# Altium footprint library IC-MODULE.PcbLib: 11 footprints
Each footprint in its own frame and in the unit in brackets; x right, y up, seen from the top. Pads: shape width x height; smd on the part's side, far side on the other; paste and mask are expansions set on the pad; w line width, h text height; cw(c..) or ccw(c..) is an arc to the next point about the centre after c.
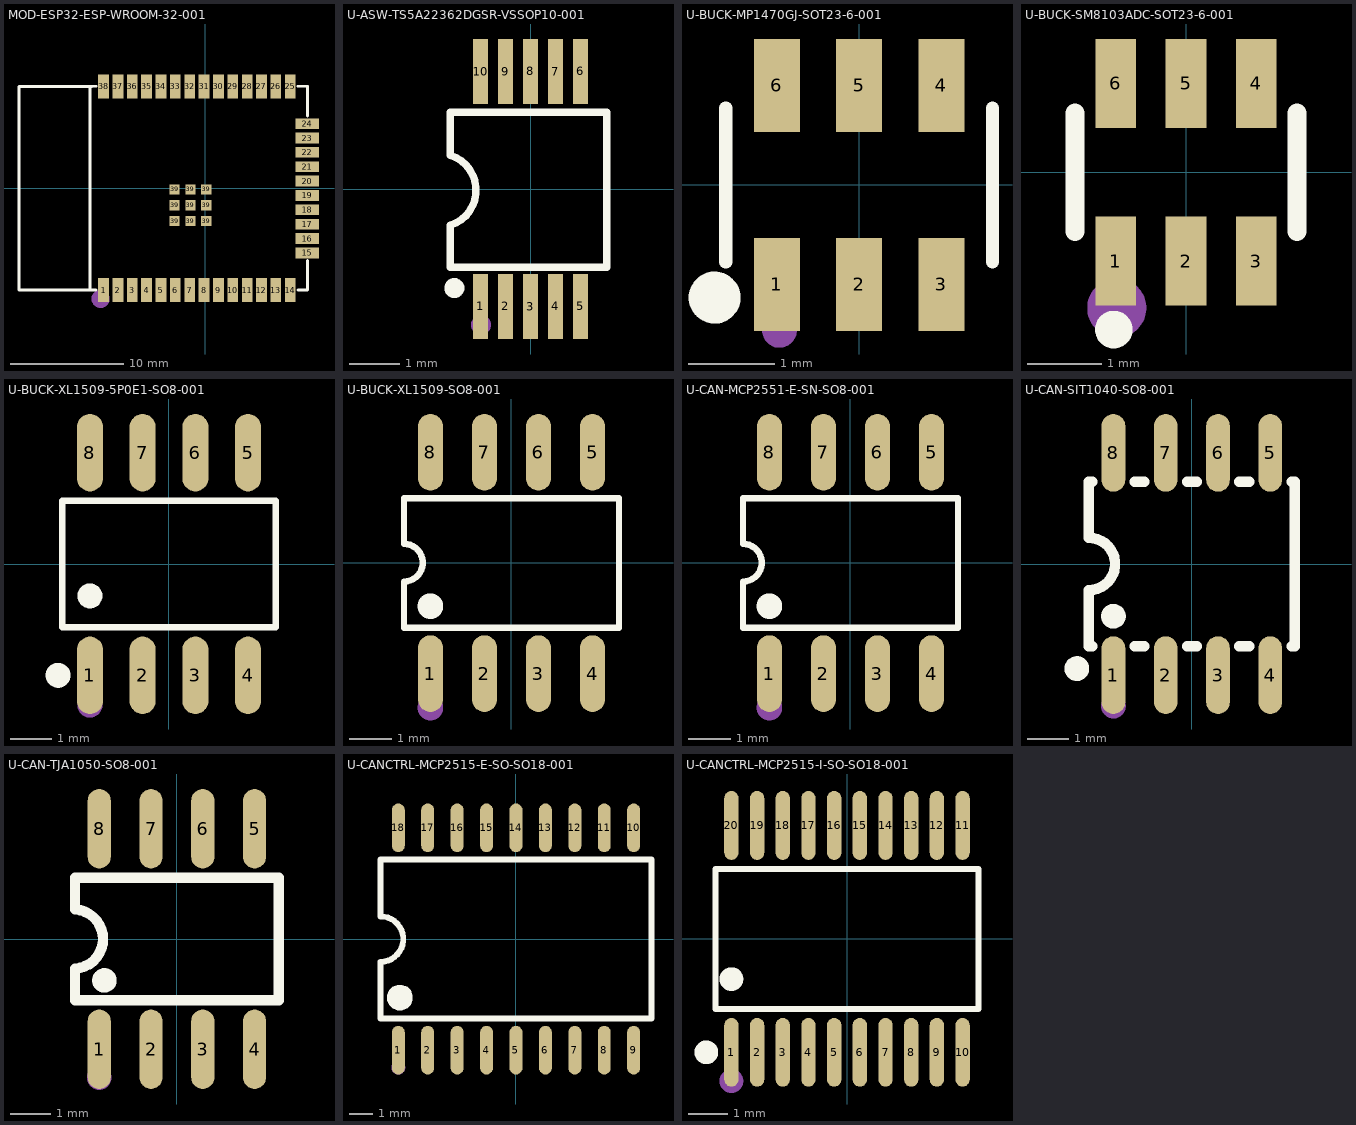
[diagram p0: the footprints below, top view; thin cyan lines are the x and y axes]

## MOD-ESP32-ESP-WROOM-32-001 [mm] "General-purpose Wi-Fi+BT+BLE MCU module"
pads (47):
  rect 0.95x2.1 smd paste+0 mask+0.051: 1(-9.002,-9) 2(-7.732,-9) 3(-6.462,-9) 4(-5.192,-9) 5(-3.922,-9) 6(-2.652,-9) 7(-1.382,-9) 8(-0.112,-9) 9(1.158,-9) 10(2.428,-9) 11(3.698,-9) 12(4.968,-9) 13(6.238,-9) 14(7.508,-9) 25(7.507,9) 26(6.237,9) 27(4.967,9) 28(3.697,9) 29(2.427,9) 30(1.157,9) 31(-0.113,9) 32(-1.383,9) 33(-2.653,9) 34(-3.923,9) 35(-5.193,9) 36(-6.463,9) 37(-7.733,9) 38(-9.003,9)
  rect 2.1x0.95 smd paste+0 mask+0.051: 15(9.003,-5.715) 16(9.003,-4.445) 17(9.003,-3.175) 18(9.003,-1.905) 19(9.003,-0.635) 20(9.003,0.635) 21(9.003,1.905) 22(9.003,3.175) 23(9.003,4.445) 24(9.003,5.715)
  rect 0.9x0.9 smd paste+0 mask+0.051: 39(-2.721,-2.9) 39(-2.721,-1.5) 39(-2.721,-0.1) 39(-1.321,-2.9) 39(-1.321,-0.1) 39(-1.321,-1.5) 39(0.079,-2.9) 39(0.079,-1.5) 39(0.079,-0.1)
Top Overlay:
  lines w0.254: -10.192,9 -10.192,-9 -9.684,-9 ; -10.192,9.017 -9.684,9.017 ; -10.026,-9 -16.476,-9 -16.476,9 -10.011,9 ; 8.189,-9 9.024,-9 9.024,-6.396 ; 8.189,9.017 9.024,9.017 9.024,6.396
Mechanical 15:
  circle w0.8: c-9.264,-9.779 r0.4
3D body "MOD-ESP32-ESP-WROOM-32-001.step": height 3.1, standoff 0, extent -16.56,-9 8.94,9

## U-ASW-TS5A22362DGSR-VSSOP10-001 [mm] "2-channel SPDT Analog Switches With Negative Signaling Capability"
pads (10):
  rect 0.3x1.3 smd paste+0 mask+0.051: 1(-1,-2.35) 2(-0.5,-2.35) 3(0,-2.35) 4(0.5,-2.35) 5(1,-2.35) 6(1,2.35) 7(0.5,2.35) 8(0,2.35) 9(-0.5,2.35) 10(-1,2.35)
Top Overlay:
  circle w0.2: c-1.524,-1.981 r0.1
  lines w0.15: -1.603,-1.562 -1.603,-0.724 ccw(c-1.82,-0.026) -1.603,0.673 ; -1.603,0.698 -1.603,1.537 ; -1.578,-1.562 1.522,-1.562 ; -1.578,1.537 1.522,1.537 1.522,-1.564
Mechanical 15:
  circle w0.2: c-0.99,-2.718 r0.1
3D body "U-ASW-TS5A22362DGSR-VSSOP10-001.step": height 1.23, standoff -0.02, extent -1.5,-2.506 1.5,2.506

## U-BUCK-MP1470GJ-SOT23-6-001 [mm] "18V 2A 600KHz Synchronous Step-Down Converter"
pads (6):
  rect 0.532x1.072 smd paste+0 mask+0.051: 1(-0.95,-1.149) 2(0,-1.149) 3(0.95,-1.149) 4(0.95,1.149) 5(0,1.149) 6(-0.95,1.149)
Top Overlay:
  circle w0.3: c-1.668,-1.301 r0.15
  lines w0.152: -1.539,-0.889 -1.539,0.889 ; 1.539,-0.889 1.539,0.889
Mechanical 15:
  circle w0.2: c-0.92,-1.68 r0.1
3D body "U-BUCK-MP1470GJ-SOT23-6-001.step": height 1.59, standoff -0.05, extent -1.439,-1.432 1.441,1.361

## U-BUCK-SM8103ADC-SOT23-6-001 [mm] "High Efficiency, 3.0A, 18V Input Synchronous Step Down Regulator"
pads (6):
  rect 0.55x1.2 smd paste+0 mask+0.051: 1(-0.95,-1.2) 2(0,-1.2) 3(0.95,-1.2) 4(0.95,1.2) 5(0,1.2) 6(-0.95,1.2)
Top Overlay:
  circle w0.254: c-0.975,-2.125 r0.127
  lines w0.254: -1.5,-0.8 -1.5,0.8 ; 1.5,-0.8 1.5,0.8
Mechanical 15:
  circle w0.4: c-0.934,-1.832 r0.2
3D body "U-BUCK-MP1470GJ-SOT23-6-001.step": height 1.64, standoff 0, extent -1.44,-1.419 1.44,1.374

## U-BUCK-XL1509-5P0E1-SO8-001 [mm] "2A 150KHz 40V Buck DC to DC Converter"
pads (8):
  oval 0.63x1.865 smd paste+0 mask+0.051: 1(-1.905,-2.682) 2(-0.635,-2.682) 3(0.635,-2.682) 4(1.905,-2.682) 5(1.905,2.682) 6(0.635,2.682) 7(-0.635,2.682) 8(-1.905,2.682)
Top Overlay:
  circle w0.3: c-1.905,-0.769 r0.15
  circle w0.3: c-2.672,-2.683 r0.15
  lines w0.152: -2.576,-1.521 -2.576,1.521 2.576,1.521 2.576,-1.521 -2.576,-1.521
Mechanical 15:
  circle w0.3: c-1.905,-3.4 r0.15
3D body "U-BUCK-XL1509-5P0E1-SO8-001.step": height 1.46, standoff -0.04, extent -2.45,-3.025 2.45,2.975

## U-BUCK-XL1509-SO8-001 [mm] "150KHz 3A PWM Buck DC/DC Converter"
pads (8):
  oval 0.588x1.8 smd paste+0 mask+0.051: 1(-1.905,-2.6) 2(-0.635,-2.6) 3(0.635,-2.6) 4(1.905,-2.6) 5(1.905,2.6) 6(0.635,2.6) 7(-0.635,2.6) 8(-1.905,2.6)
Top Overlay:
  circle w0.3: c-1.905,-1.016 r0.15
  lines w0.15: -2.068,-1.521 -2.526,-1.521 ; -2.068,1.521 -2.526,1.521 ; -1.742,-1.521 -0.798,-1.521 ; -1.742,1.521 -0.798,1.521 ; -0.472,-1.521 0.472,-1.521 ; -0.472,1.521 0.472,1.521 ; 0.798,-1.521 1.742,-1.521 ; 0.798,1.521 1.742,1.521 ; 2.068,-1.521 2.526,-1.521 ; 2.068,1.521 2.526,1.521 ; -2.526,-1.521 -2.526,-0.435 ccw(c-2.526,0.007) -2.526,0.449 -2.526,1.521 ; -2.526,-1.521 2.526,-1.521 ; -2.526,1.521 2.526,1.521 ; 2.526,-1.521 2.526,1.521
Mechanical 15:
  circle w0.3: c-1.905,-3.4 r0.15
3D body "U-BUCK-XL1509-5P0E1-SO8-001.step": height 1.46, standoff -0.04, extent -2.45,-3.025 2.45,2.975

## U-CAN-MCP2551-E-SN-SO8-001 [mm] "High-Speed CAN Transceiver"
pads (8):
  oval 0.588x1.8 smd paste+0 mask+0.051: 1(-1.905,-2.6) 2(-0.635,-2.6) 3(0.635,-2.6) 4(1.905,-2.6) 5(1.905,2.6) 6(0.635,2.6) 7(-0.635,2.6) 8(-1.905,2.6)
Top Overlay:
  circle w0.3: c-1.905,-1.016 r0.15
  lines w0.15: -2.068,-1.521 -2.526,-1.521 ; -2.068,1.521 -2.526,1.521 ; -1.742,-1.521 -0.798,-1.521 ; -1.742,1.521 -0.798,1.521 ; -0.472,-1.521 0.472,-1.521 ; -0.472,1.521 0.472,1.521 ; 0.798,-1.521 1.742,-1.521 ; 0.798,1.521 1.742,1.521 ; 2.068,-1.521 2.526,-1.521 ; 2.068,1.521 2.526,1.521 ; -2.526,-1.521 2.526,-1.521 ; -2.526,-1.521 -2.526,-0.435 ccw(c-2.526,0.007) -2.526,0.449 -2.526,1.521 ; -2.526,1.521 2.526,1.521 ; 2.526,-1.521 2.526,1.521
Mechanical 15:
  circle w0.3: c-1.905,-3.4 r0.15
3D body "U-BUCK-XL1509-5P0E1-SO8-001.step": height 1.51, standoff 0.01, extent -2.45,-3 2.45,3

## U-CAN-SIT1040-SO8-001 [mm] "5V Supply, ±40V Interface Voltage Tolerance, 1Mbps High-Speed CAN Bus Transceiver"
pads (8):
  oval 0.574x1.888 smd paste+0 mask+0.051: 1(-1.905,-2.699) 2(-0.635,-2.699) 3(0.635,-2.699) 4(1.905,-2.699) 5(1.905,2.699) 6(0.635,2.699) 7(-0.635,2.699) 8(-1.905,2.699)
Top Overlay:
  circle w0.3: c-1.905,-1.27 r0.15
  circle w0.3: c-2.794,-2.54 r0.15
  lines w0.254: -2.421,-2 -2.5,-2 -2.5,-0.635 ccw(c-2.5,0) -2.499,0.635 -2.5,2 -2.421,2 ; -1.389,-2 -1.151,-2 ; -1.389,2 -1.151,2 ; -0.119,-2 0.119,-2 ; -0.119,2 0.119,2 ; 1.151,-2 1.389,-2 ; 1.151,2 1.389,2 ; 2.421,-2 2.5,-2 2.5,2 2.421,2
Mechanical 15:
  circle w0.3: c-1.905,-3.45 r0.15
3D body "U-BUCK-XL1509-5P0E1-SO8-001.step": height 1.49, standoff -0.01, extent -2.45,-3.025 2.45,2.975

## U-CAN-TJA1050-SO8-001 [mil] "High speed CAN transceiver"
pads (8):
  oval 22.38x76.78 smd paste+0 mask+2: 1(-75,-106.5) 2(-25,-106.5) 3(25,-106.5) 4(75,-106.5) 5(75,106.5) 6(25,106.5) 7(-25,106.5) 8(-75,106.5)
Top Overlay:
  circle w11.81: c-70,-40 r5.91
  lines w10: -98.43,-28.61 ccw(c-99.99,0) -98.23,28.59 ; -98.42,-28.61 -98.42,-59.05 98.42,-59.05 98.42,59.05 -98.42,59.05 -98.42,28.59
Mechanical 15:
  circle w11.81: c-75,-133.86 r5.91
3D body "U-CAN-TJA1050-SO8-001.step": height 66.93, standoff 0, extent -97.46,-119.11 95.46,117.11

## U-CANCTRL-MCP2515-E-SO-SO18-001 [mm] "Stand-Alone CAN Controller with SPI Interface"
pads (18):
  oval 0.56x2.1 smd paste+0 mask+0.051: 1(-5.08,-4.8) 2(-3.81,-4.8) 3(-2.54,-4.8) 4(-1.27,-4.8) 5(0,-4.8) 6(1.27,-4.8) 7(2.54,-4.8) 8(3.81,-4.8) 9(5.08,-4.8) 10(5.08,4.8) 11(3.81,4.8) 12(2.54,4.8) 13(1.27,4.8) 14(0,4.8) 15(-1.27,4.8) 16(-2.54,4.8) 17(-3.81,4.8) 18(-5.08,4.8)
Top Overlay:
  region: -5.55,-2.53 -5.551,-2.422 -5.469,-2.222 -5.317,-2.069 -5.118,-1.986 -4.902,-1.986 -4.703,-2.069 -4.551,-2.222 -4.469,-2.422 -4.47,-2.53 -4.469,-2.638 -4.551,-2.838 -4.703,-2.991 -4.902,-3.074 -5.118,-3.074 -5.317,-2.991 -5.469,-2.838 -5.551,-2.638 -5.55,-2.53
  lines w0.254: -5.842,-1.011 -5.842,-3.429 5.842,-3.429 5.842,3.429 -5.842,3.429 -5.842,0.973 cw(c-5.842,-0.005) -5.842,-0.983
Mechanical 15:
  circle w0.3: c-5.08,-5.55 r0.15
3D body "U-CANCTRL-MCP2515-E-SO-SO18-001.step": height 2.85, standoff 0, extent -5.8,-5.228 5.8,5.178

## U-CANCTRL-MCP2515-I-SO-SO18-001 [mm] "Stand-alone CAN controller with SPI interface"
pads (20):
  oval 0.364x1.742 smd paste+0 mask+0.051: 1(-2.925,-2.871) 2(-2.275,-2.871) 3(-1.625,-2.871) 4(-0.975,-2.871) 5(-0.325,-2.871) 6(0.325,-2.871) 7(0.975,-2.871) 8(1.625,-2.871) 9(2.275,-2.871) 10(2.925,-2.871) 11(2.925,2.871) 12(2.275,2.871) 13(1.625,2.871) 14(0.975,2.871) 15(0.325,2.871) 16(-0.325,2.871) 17(-0.975,2.871) 18(-1.625,2.871) 19(-2.275,2.871) 20(-2.925,2.871)
Top Overlay:
  circle w0.3: c-2.925,-1.019 r0.15
  circle w0.3: c-3.559,-2.871 r0.15
  lines w0.152: -3.326,-1.771 -3.326,1.771 3.326,1.771 3.326,-1.771 -3.326,-1.771
Mechanical 15:
  circle w0.3: c-2.925,-3.6 r0.15
3D body "U-CANCTRL-MCP2515-I-SO-SO18-001.step": height 1.06, standoff 0.01, extent -3.247,-3.2 3.247,3.2